# Altium schematic symbol library Ahristi_Library.SchLib: 438 symbols (part 3 of 5)
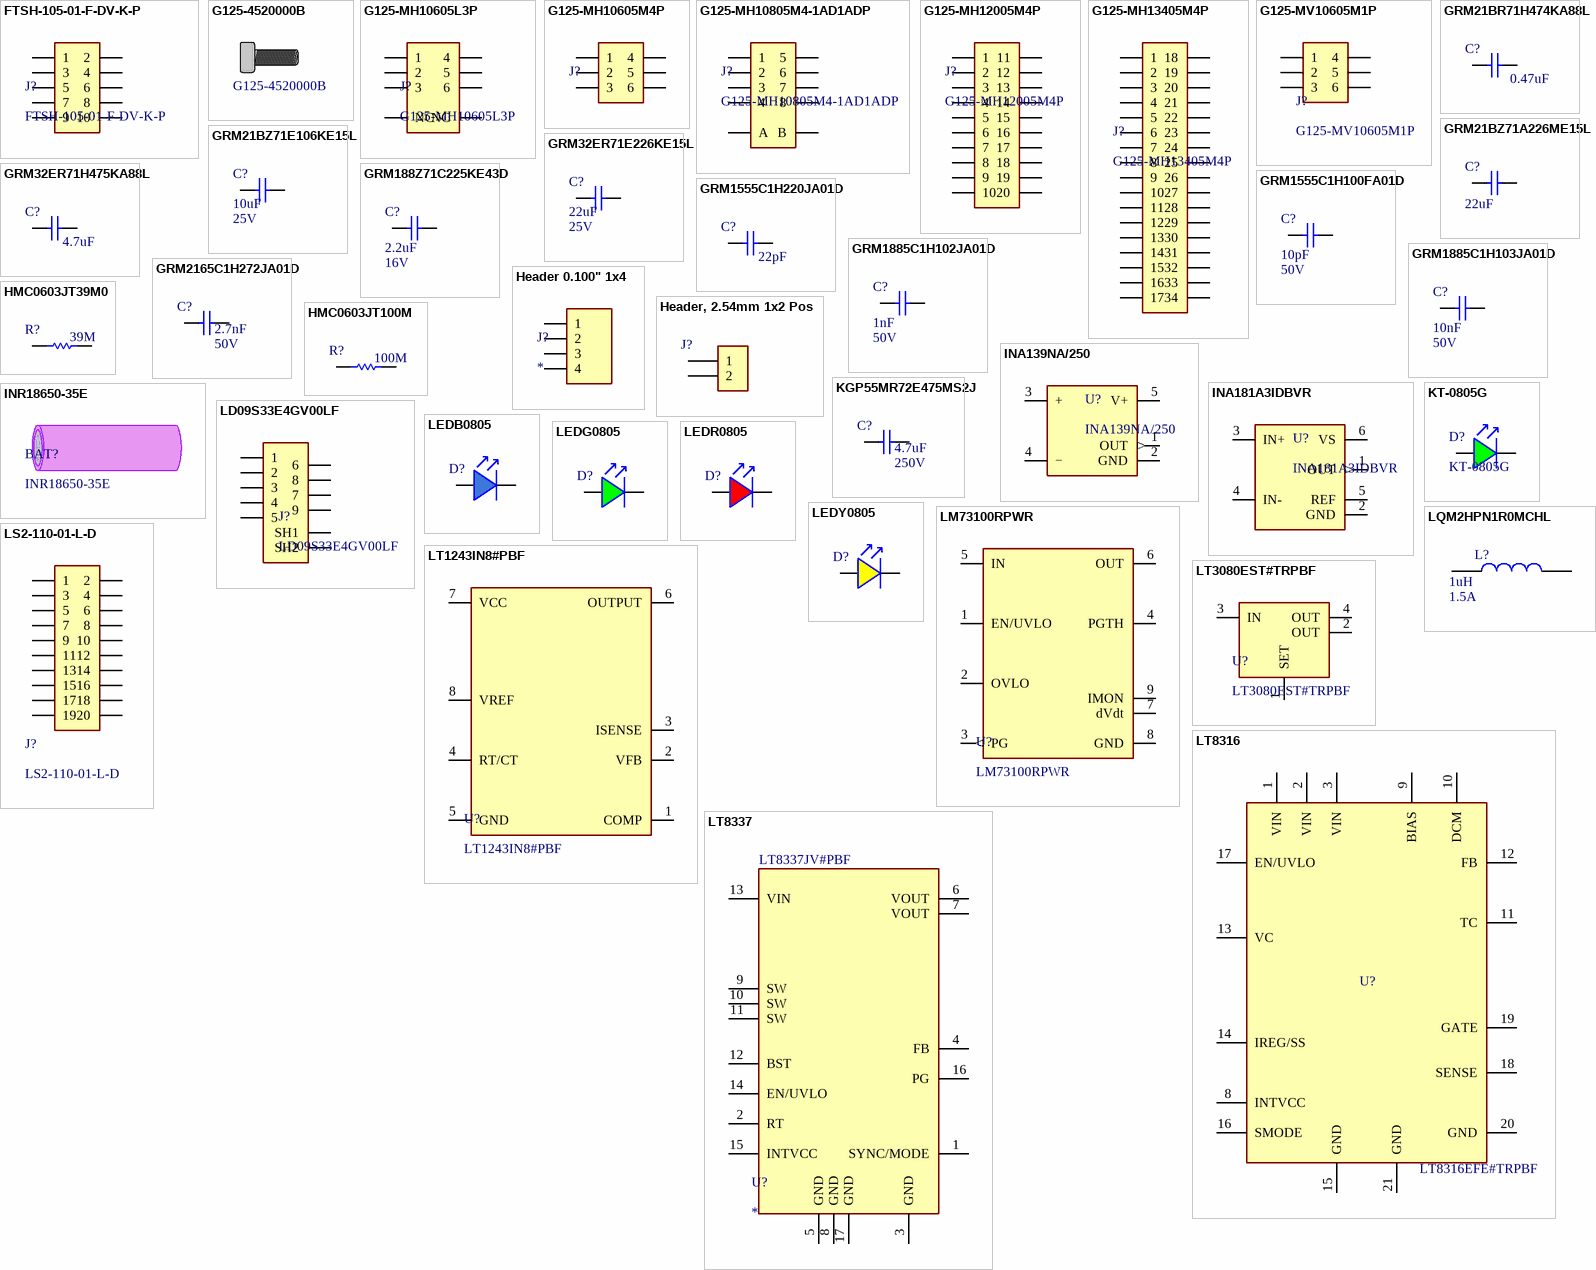
[diagram p14: symbols FTSH-105-01-F-DV-K-P to LT8337]

## KGP55MR72E475MS2J
designator C?  Voltage Rating: 250V  Capacitance: 4.7uF  (hidden comment: KGP55MR72E475MS2J)
4.7 µF ±20% 250V Ceramic Capacitor X7R Stacked SMD, 2 J-Lead; Part Number: KGP55MR72E475MS2J; Distributor Part Number: 478-KGP55MR72E475MS2JCT-ND; Tolerance: 20%; Case Code: 2220; Distributor: 478-KGP55MR72E475MS2JCT-ND
footprint 2220 STACKED (Kyocera stacked 2220)
pins: 1, 2

## KT-0805G
designator D?
LED Green 0805 00mW 120° 2.6V~3.1V 430mcd 513nm~528nm 525nm 5mA; Part Number: KT-0805G; Distributor Part Number: C2297; Colour: Green; Operating Temperature: -40℃~+85℃; Distributor: JLCPCB
footprint LEDG_0805 (Generic Green LED 0805)
pins: A, K

## LD09S33E4GV00LF
designator J?
D-Sub 9 Pin Female Header Right Angle; Voltage Rating: 250V; Current Rating Per Contact: 5A; Part Number: LD09S33E4GV00LF; Distributor: Digikey; Distributor Part Number: 609-5192-ND; Operating Temperature: -55°C ~ 105°C
footprint LD09S33E4GV00LF (9 Pin Dsub)
pins: 1, 2, 3, 4, 4 SH1, 5, 6, 7, 8, 9, SH2

## LEDB0805
designator D?
Generic Blue LED 0805; Manufacturer Part Number: *; Distributor Part Number: *; Colour: *; Operating Temperature: *
footprint LEDB_0805 (Generic bLUE LED 0805)
pins: A, K

## LEDG0805
designator D?
Generic Green LED 0805; Manufacturer Part Number: *; Distributor Part Number: *; Colour: *; Operating Temperature: *
footprint LEDG_0805 (Generic Green LED 0805)
pins: A, K

## LEDR0805
designator D?
Generic Red LED 0805; Manufacturer Part Number: *; Distributor Part Number: *; Colour: *; Operating Temperature: *
footprint LEDR_0805 (Generic Red LED 0805)
pins: A, K

## LEDY0805
designator D?
Generic Yellow LED 0805; Manufacturer Part Number: *; Distributor Part Number: *; Colour: *; Operating Temperature: *
footprint LEDY_0805 (Generic Yellow LED 0805)
pins: A, K

## LM73100RPWR
designator U?
Ideal Diode 2.7 - 23 V, 5.5 A with Input Reverse Polarity and / Overvoltage Protection; Current Output: 5.5A; Voltage Supply: 2.7V ~ 23V; Part Number: LM73100RPWR; Distributor Part Number: 296-LM73100RPWRCT-ND; Distributor: Digikey; Operating Temperature: -40°C ~ 125°C (TJ)
footprint VFQFN-10 (TI VFQFN-10)
pins: 1 EN/UVLO, 2 OVLO, 3 PG (out), 4 PGTH, 5 IN, 6 OUT, 7 dVdt, 8 GND, 9 IMON

## LQM2HPN1R0MCHL
designator L?  Isat: 1.5A  Inductance: 1uH
1uH Tol. +/-20%, Package: 1008 (2520); Manufacturer Part Number: LQM2HPN1R0MCHL; DCR: 90mohm; Tolerance: 20%; ComponentLink1Description: Datasheet; ComponentLink1URL: *; Distributor Part Number: *
footprint LQM2HPN1R0MG0L (Inductor with Inductance: 1uH Tol. +/-20%, Package: 1008 (2520))
pins: 1, 2

## LS2-110-01-L-D
designator J?
Connector Self Mating 20 Position , Non-Gendered, Hermaphroditic Through Hole Gold; Number of Positions: 20; Contact Rating: 3.2A; Voltage Rating: 475VAC; Part Number: LS2-110-01-L-D; Distributor Part Number: SAM9665-ND; Distributor: Digikey; Number of Rows: 2; Operating Temperature: -55C ~ 125C
footprint LS2-110-01-L-D
pins: 1, 2, 3, 4, 5, 6, 7, 8, 9, 10, 11, 12, 13, 14, 15, 16, 17, 18, 19, 20

## LT1243IN8#PBF
designator U?
Buck Regulator Positive, Isolation Capable Output Step-Down DC-DC Controller IC 8-PDIP; Input Voltage: 8.2V ~ 25V; Switching Frequency: 500kHz; Max Duty Cycle: 96%; Part Number: LT1243IN8#PBF; Distributor Part Number: LT1243IN8#PBF-ND; Distributor: Digikey; Operating Temperature: -40C ~ 100C (TA)
footprint 8-CDIP (JG) (Texas Instruments 8-CDIP (JG))
pins: 1 COMP, 2 VFB, 3 ISENSE, 4 RT/CT, 5 GND, 6 OUTPUT, 7 VCC, 8 VREF

## LT3080EST#TRPBF
designator U?
Linear Voltage Regulator IC Positive Adjustable 1 Output 1.1A SOT-223-3; Voltage Input (Max): 36V; Voltage - Output (Min): 0V; Voltage Dropout (Max): 1.6V @ 1.1A; Part Number: LT3080EST#TRPBF; Voltage - Output (Max): 36V; Current - Output: 1.1A; Operating Temperature: -40C ~ 125C
footprint LT3080 (4-SOT-223)
pins: 1 SET, 2 OUT, 3 IN, 4 OUT

## LT8316
designator U?  Manufacturer Part Number: LT8316EFE#TRPBF
Buck, Boost, Flyback Regulator Positive Output Step-Up, Step-Down DC-DC Controller IC 20-TSSOP-EP
footprint LT8316
pins: 1 VIN, 2 VIN, 3 VIN, 8 INTVCC (oc), 9 BIAS (oc), 10 DCM (oc), 11 TC (oc), 12 FB (oc), 13 VC (oc), 14 IREG/SS (oc), 15 GND (oc), 16 SMODE (oc), 17 EN/UVLO (oc), 18 SENSE (oc), 19 GATE (oc), 20 GND (oc), 21 GND (oc)

## LT8337
designator U?  Manufacturer Part Number: LT8337JV#PBF
IC REG BOOST PROG 5A 16LQFN; Frequency - Switching: 300kHz-3MHz; Voltage - Input (Min): 2.7V; Voltage - Input (Max): 28V; Digikey Part Number: 505-LT8337JV#PBF-ND; Max Output Current: 5A; Operating Temperature: -40°C ~ 150°C (TJ); ComponentLink1Description: Datasheet; ComponentLink1URL: https://www.analog.com/media/en/technical-documentation/data-sheets/lt8337-8337-1.pdf
footprint LT8337 (IC REG BOOST PROG 5A 16LQFN)
pins: 1 SYNC/MODE, 2 RT, 3 GND, 4 FB, 5 GND, 6 VOUT, 7 VOUT, 8 GND, 9 SW, 10 SW, 11 SW, 12 BST, 13 VIN, 14 EN/UVLO, 15 INTVCC, 16 PG, 17 GND

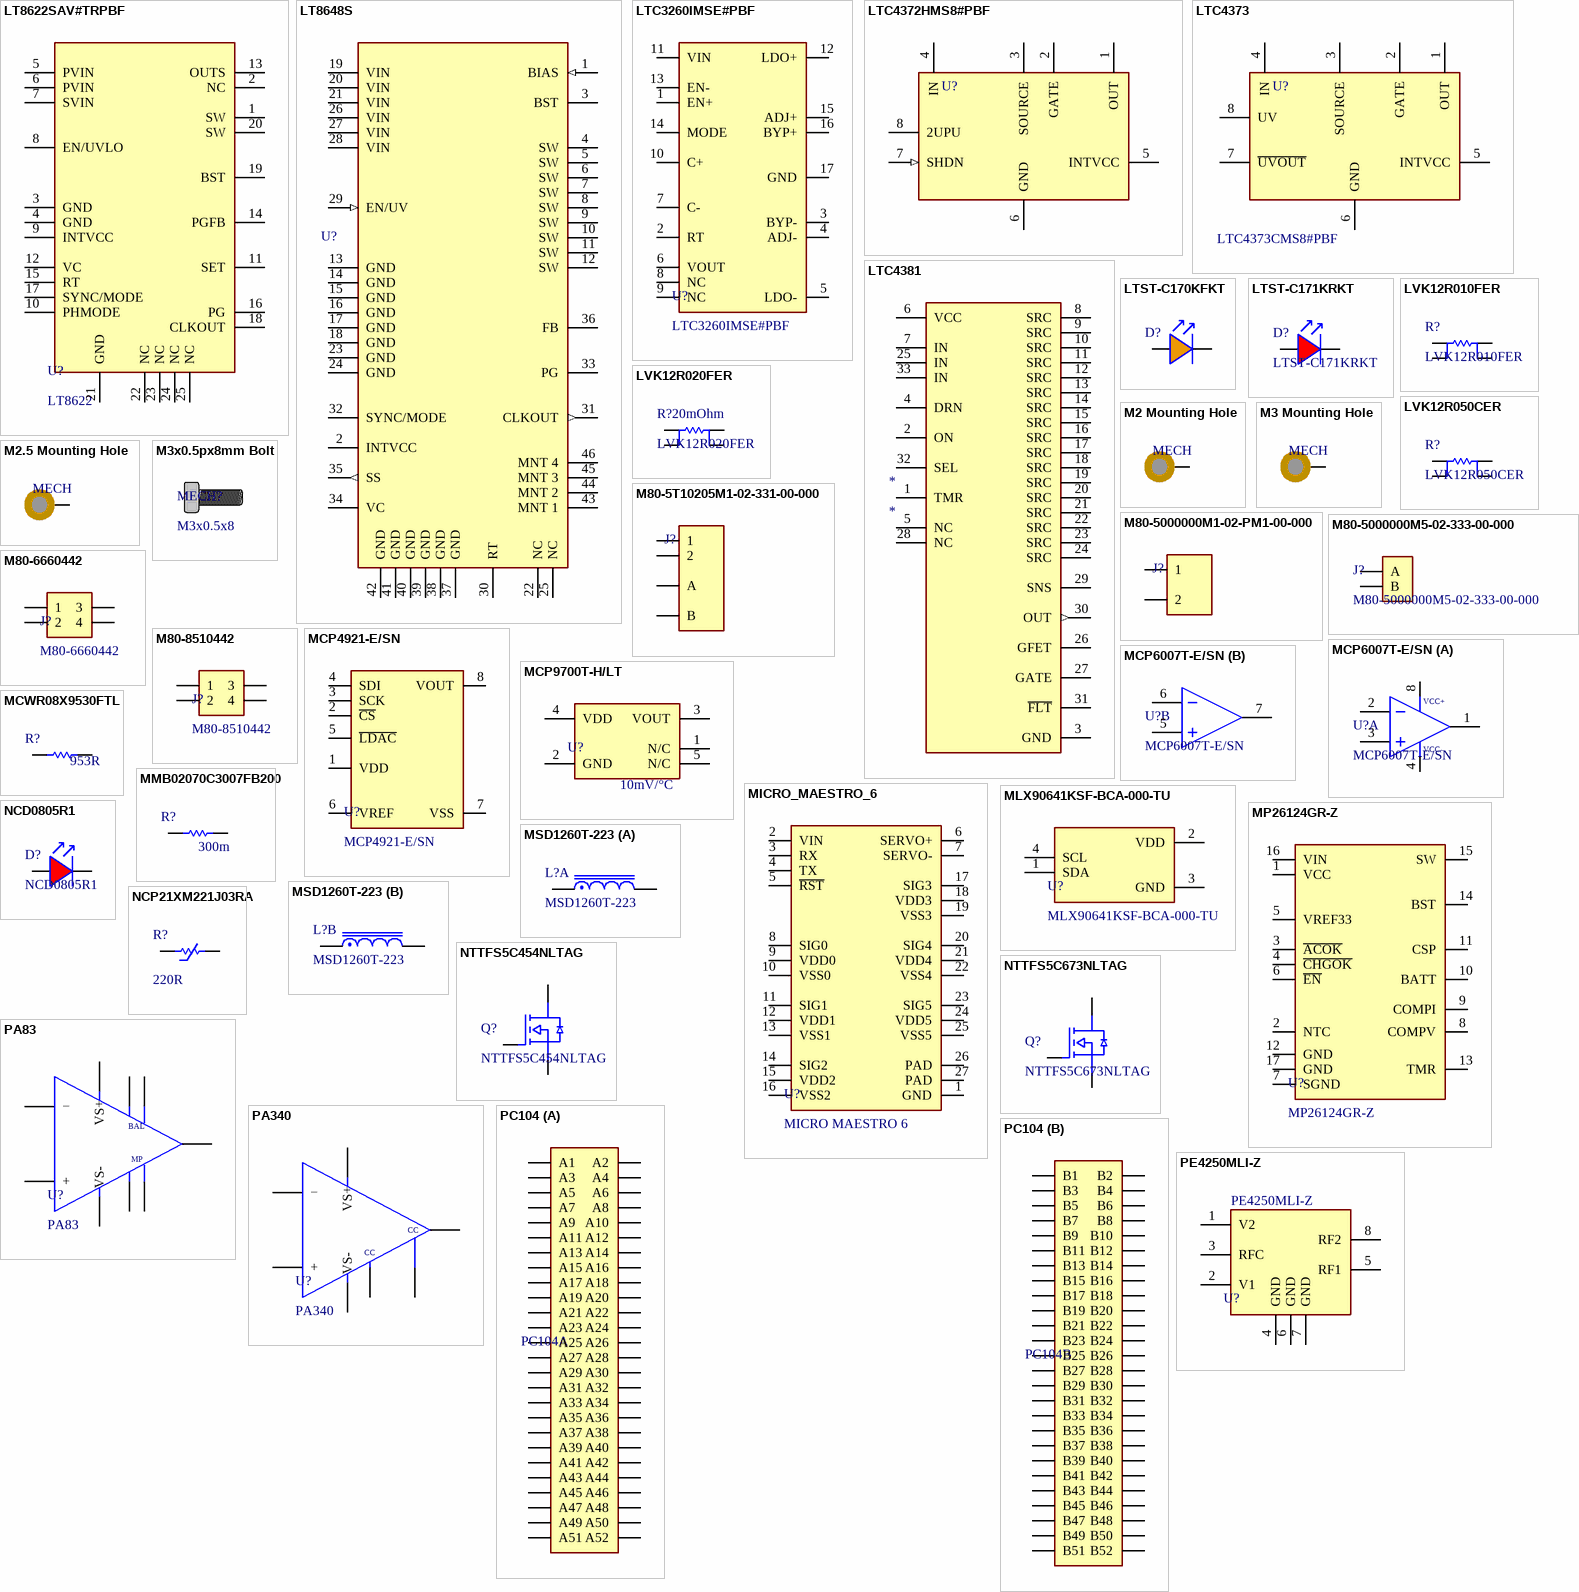
[diagram p6: symbols LT8622SAV#TRPBF to PE4250MLI-Z]

## LT8622SAV#TRPBF
designator U?, comment LT8622
Switching Voltage Regulators 18V, 3A Synchronous Step-Down SW3; Part Number: LT83203RUDB#TRMPBF; Input Voltage: 2.7V ~ 18V; Output Voltage: 0V ~ Vin-0.5V; Output Current: 2A; Maximum Switching Frequency: 6MHz; Operating Temperature: -40C ~ 125C
footprint LT8622S (LT8622S - 20LQFN 4.0x3.0x0.94)
pins: 1 SW, 2 NC, 3 GND, 4 GND, 5 PVIN, 6 PVIN, 7 SVIN, 8 EN/UVLO, 9 INTVCC, 10 PHMODE, 11 SET, 12 VC, 13 OUTS, 14 PGFB, 15 RT, 16 PG, 17 SYNC/MODE, 18 CLKOUT, 19 BST, 20 SW, 21 GND, 22 NC, 23 NC, 24 NC, 25 NC

## LT8648S
designator U?
Switching Voltage Regulators 42V, 15A Synchronous Step-Down Silent Switcher 2; Manufacturer Part Number: LT8648S; Qualification: AEC-Q100; Package: 36-Lead 7mm × 4mm LQFN; Distributor Part Number: *
footprint LT8648S
pins: 1 BIAS (in), 2 INTVCC (power), 3 BST (power), 4 SW, 5 SW, 6 SW, 7 SW, 8 SW, 9 SW, 10 SW, 11 SW, 12 SW, 13 GND, 14 GND, 15 GND, 16 GND, 17 GND, 18 GND, 19 VIN (power), 20 VIN (power), 21 VIN (power), 22 NC, 23 GND, 24 GND, 25 NC, 26 VIN (power), 27 VIN (power), 28 VIN (power), 29 EN/UV (in), 30 RT, 31 CLKOUT (out), 32 SYNC/MODE, 33 PG (oc), 34 VC (power), 35 SS (out), 36 FB, 37 GND, 38 GND, 39 GND, 40 GND, 41 GND, 42 GND, 43 MNT 1, 44 MNT 2, 45 MNT 3, 46 MNT 4

## LTC3260IMSE#PBF
designator U?
PMIC - Voltage Regulators - Linear Switching 1 Output Charge Pump 50kHz ~ 500kHz 16-MSOP-EP; Voltage _ Supply: 4.5V ~ 32V; Part Number: LTC3260IMSE#PBF; Distributor Part Number: 505-LTC3260IMSE#PBF-ND; Operating Temperature: -40°C ~ 125°C (TJ); Switching Frequency: 500kHz; Distributor: Digikey
footprint LTC3260IMSE#PBF (16-MSOP)
pins: 1 EN+, 2 RT, 3 BYP-, 4 ADJ-, 5 LDO-, 6 VOUT, 7 C-, 8 NC, 9 NC, 10 C+, 11 VIN, 12 LDO+, 13 EN-, 14 MODE, 15 ADJ+, 16 BYP+, 17 GND

## LTC4372HMS8#PBF
designator U?  (value not drawn)
Ideal Diode Controller, 8-lead MSOP SHDN; Manufacturer Part Number: LTC4373CMS8#PBF; Qualification: None; Voltage Supply: 2.5V ~ 80V; Distributor Part Number: 505-LTC4372HMS8#PBF-ND; Package: 8-Lead MSOP; Distributor: Digikey; Operating Temperature: -40°C ~ 125°C (TA)
footprint MS8-8LEAD
pins: 1 OUT, 2 GATE, 3 SOURCE, 4 IN, 5 INTVCC, 6 GND, 7 SHDN (in), 8 2UPU

## LTC4373
designator U?  Manufacturer Part Number: LTC4373CMS8#PBF
Ideal Diode Controller, 8-lead MSOP UV lockout; Qualification: None; Package: 8-Lead MSOP
footprint MS8-8LEAD
pins: 1 OUT, 2 GATE, 3 SOURCE, 4 IN, 5 INTVCC, 6 GND, 7 ~{UVOUT} (oc), 8 UV

## LTC4381
designator *
footprint LTC4381
pins: 1 TMR, 2 ON, 3 GND (power), 4 DRN, 5 NC, 6 VCC (power), 7 IN (power), 8 SRC, 9 SRC, 10 SRC, 11 SRC, 12 SRC, 13 SRC, 14 SRC, 15 SRC, 16 SRC, 17 SRC, 18 SRC, 19 SRC, 20 SRC, 21 SRC, 22 SRC, 23 SRC, 24 SRC, 25 IN (power), 26 GFET, 27 GATE, 28 NC, 29 SNS, 30 OUT (out), 31 ~{FLT}, 32 SEL, 33 IN (power)

## LTST-C170KFKT
designator D?  (value not drawn)
Orange 605nm LED Indication - Discrete 2V 0805 (2012 Metric); Part Number: LTST-C170KFKT; Distributor Part Number: 160-1413-1-ND; Colour: Orange; Operating Temperature: *; Forward Voltage: 2V
footprint LEDO_0805 (Orange LED 0805)
pins: A, K

## LTST-C171KRKT
designator D?
Red 631nm LED Indication - Discrete 2V 0805 (2012 Metric); Part Number: LTST-C171KRKT; Distributor Part Number: 160-1427-1-ND; Colour: Red; Operating Temperature: -30℃~+85℃; Distributor: Digikey
footprint LEDR_0805 (Generic Red LED 0805)
pins: A, K

## LVK12R010FER
designator R?
10 mOhms ±1% 0.5W, 1/2W Chip Resistor 1206 (3216 Metric) Anti-Corrosive, Current Sense, Moisture Resistant Thick Film; Manufacturer: Ohmite; Tolerance: 0.25%; Temperature Coefficient: ±50ppm/°C; Resistance: 10mOhm; Part Number: LVK12R010FER; Distributor: Digikey; Distributor Part Number: 273-LVK12R010FERCT-ND; Power: 0.5W
footprint LVK12R050CER-1 (1206 Current Sense)
footprint LVK12R050CER-2 (1206 Current Sense)
pins: 1, 2, 3, 4

## LVK12R020FER
designator R?  Resistance: 20mOhm
20 mOhms ±1% 0.5W, 1/2W Chip Resistor 1206 (3216 Metric) Anti-Corrosive, Current Sense, Moisture Resistant Thick Film; Manufacturer: Ohmite; Tolerance: 0.25%; Temperature Coefficient: ±50ppm/°C; Part Number: LVK12R020FER; Distributor: Digikey; Distributor Part Number: 273-LVK12R020FERCT-ND; Power: 0.5W
footprint LVK12R050CER-1 (1206 Current Sense)
footprint LVK12R050CER-2 (1206 Current Sense)
pins: 1, 2, 3, 4

## LVK12R050CER
designator R?
Resistor, Current Sense 50 mOhms ±0.25% 0.5W, Moisture Resistant Thick Film; Manufacturer: Ohmite; Temperature Coefficient: ±50ppm/°C; Resistance: 50mOhm; Part Number: LVK12R050CER; Distributor: *; Distributor Part Number: *; Power: 0.5W; Tolerance: 0.25%
footprint LVK12R050CER-1 (1206 Current Sense)
footprint LVK12R050CER-2 (1206 Current Sense)
pins: 1, 2, 3, 4

## M2 Mounting Hole
designator MECH  (value not drawn)
footprint M2 Mounting Hole
footprint M2 Mounting Hole - NO VIAS (M2 Mounting Hole)
pins: 1

## M2.5 Mounting Hole
designator MECH  (value not drawn)
footprint M2.5 Mounting Hole
pins: 1

## M3 Mounting Hole
designator MECH, comment M3 MOUNTING HOLE  (value not drawn)
footprint M3 Mounting Hole
pins: 1

## M3x0.5px8mm Bolt
designator MECH?, comment M3x0.5x8  (mechanical)
M3 x 0.50p x 8mm Full Thread Metric Coarse Socket Head Cap Screw (2.5mm Key) A4-70 Stainless G316 DIN 912 / ISO 4762; Part Number: M3 x 0.50p x 8mm; Distributor: Bolt and Nut Australia; Distributor Part Number: M3 x 0.50p x 8mm
footprint M3 x 0.50p x 8mm Bolt

## M80-5T10205M1-02-331-00-000
designator J?
Harwin 2+2 Pos. Male Signal+Power Vertical Throughboard Conn. Jackscrews; Manufacturer Part Number: M80-5T10205M1-02-331-00-000; Rows: 2; Positions: 4; Max Current: 40A; Distributor Part Number: *; ComponentLink1Description: New link; ComponentLink1URL: https://www.mouser.co.uk/datasheet/2/181/M80-5T10205M1-02-331-00-000-1135657.pdf
footprint M80-5T10205M1-02-331-00-000 (Harwin 2+2 Pos. Male Signal+Power Vertical Throughboard Conn. Jackscrews)
pins: 1, 2, A, B

## M80-5000000M1-02-PM1-00-000
designator J?
2 Pos. Male SIL Vertical Throughboard Conn. Jackscrews; Manufacturer Part Number: M80-5000000M1-02-PM1-00-000; Rows: 1; Positions: 2; Max Current: 40A; Distributor Part Number: *
footprint M80-5000000M1-02-PM1-00-000 (2 Pos. Male SIL Vertical Throughboard Conn. Jackscrews)
pins: 1, 2

## M80-5000000M5-02-333-00-000
designator J?
Connector Header Through Hole, Right Angle 2 position 0.157" (4.00mm); Manufacturer: Harwin; Number of Positions: 2; Current Rating: 20A; Voltage Rating: 800V; Part Number: M80-5000000M5-02-333-00-000; Distributor: Digikey; Distributor Part Number: 952-2578-ND; Number of Rows: 1; Operating Temperature: -55°C ~ 125°C
footprint M80-5000000M5-02-333-00-000 (Harwin Datamate 2pin Power)
pins: A, B

## M80-6660442
designator J?
Connector Header Surface Mount, Right Angle 4 position 0.079" (2.00mm); Manufacturer: Harwin; Rows: 2; Current Rating: 2.2A; Part Number: M80-6660442; Positions: 2; Distributor Part Number: 952-2095-ND; Operating Temperature: -55°C ~ 125°C
footprint M80-6660442 (Harwin Datamate L-Tek Horizontal SMT)
pins: 1, 2, 3, 4

## M80-8510442
designator J?
Connector Header Through Hole, Right Angle 4 position 0.079" (2.00mm); Manufacturer: Harwin; Rows: 2; Current Rating: 2.2A; Part Number: M80-8510442; Positions: 2; Distributor Part Number: 952-1127-5-ND; Operating Temperature: -55°C ~ 125°C
footprint M80-8510442 (Harwin Datamate L-Tek 4Pin)
pins: 1, 2, 3, 4

## MCP4921-E/SN
designator U?
Digital to Analog Converter 12Bit SPI 2.7V ~ 5.5V; Number of Bits: 12; Part Number: MCP4921-E/SN; Distributor: Digikey; Distributor Part Number: MCP4921-E/SN-ND; Operating Temperature: -40°C ~ 125°C; Analog Supply: 2.7V ~ 5.5V; Digital Supply: 2.7V ~ 5.5V
footprint SOIC-8 (SOIC-8 Analog Devices Spec)
pins: 1 VDD, 2 ~{CS}, 3 SCK, 4 SDI, 5 ~{LDAC}, 6 VREF, 7 VSS, 8 VOUT

## MCP6007T-E/SN
designator U?
Operational Amplifier general purpose, 2-Circuit 1.8V ~ 5.5V 1MHz; Slew Rate: 1.9V/us; Part Number: MCP6007T-E/SN; Distributor: Digikey; Distributor Part Number: 150-MCP6007T-E/SNCT-ND; Input Voltage: 1.8V ~ 5.5V; Operating Temperature: -40°C ~ 125°C; Gain Bandwidth Product: 1MHz
footprint SOIC-8 (SOIC-8 Analog Devices Spec)
part A pins: 1 OUTA, 2 INA-, 3 INA+, 4 VCC-, 8 VCC+
part B pins: 5 INB+, 6 INB-, 7 OUTB

## MCP9700T-H/LT
designator U?  Resolution: 10mV/°C
Temperature Sensor Analog, Local -40°C ~ 150°C 10mV/°C SC-70-5; Manufacturer Part Number: MCP9700T-H/LT; Operating Temperature: -40°C ~ 150°C; ComponentLink1Description: Datasheet; ComponentLink1URL: https://ww1.microchip.com/downloads/aemDocuments/documents/MSLD/ProductDocuments/DataSheets/MCP970X-Family-Data-Sheet-DS20001942.pdf; Distributor: Digikey; Distributor Part Number: MCP9700T-H/LTCT-ND
footprint SC70 5-Lead
pins: 1 N/C, 2 GND, 3 VOUT, 4 VDD, 5 N/C

## MCWR08X9530FTL
designator R?, comment Resistance: 953R  (hidden comment: Multicomp MCWR08X9530FTL)
125mW 953Ω ±1% 0805 Chip Resistor - Surface Mount RoHS; Part Number: MCWR08X9530FTL; Tolerance: 1%; Distributor Part Number: C241271; Distributor: JLCPCB; Case Code: 0805
footprint RESC0805 (Chip Resistor, 2-Leads, Body 1.00x0.50mm, IPC Medium Density)
pins: 1, 2

## MICRO_MAESTRO_6
designator U?, comment MICRO MAESTRO 6
6 Channel USB Servo Controller; Part Number: 1350; Channels: 6; Operating Voltage: 5V~16V; Distributor Part Number: 1350; Distributor: Polulu
footprint MICRO_MAESTRO_6 (POLULU MICRO MAESTRO 6)
pins: 1 GND, 2 VIN, 3 RX, 4 TX, 5 ~{RST}, 6 SERVO+, 7 SERVO-, 8 SIG0, 9 VDD0, 10 VSS0, 11 SIG1, 12 VDD1, 13 VSS1, 14 SIG2, 15 VDD2, 16 VSS2, 17 SIG3, 18 VDD3, 19 VSS3, 20 SIG4, 21 VDD4, 22 VSS4, 23 SIG5, 24 VDD5, 25 VSS5, 26 PAD, 27 PAD

## MLX90641KSF-BCA-000-TU
designator U?
SENSOR TEMP 16X12 110FOV TO39; Part Number: MLX90641ESF-BCB-000-TU; Input Voltage: 3V~3.6V; Distributor: *; Distributor Part Number: *; Operating Temperature: -40C ~ 125C; ComponentLink1Description: Datasheet; ComponentLink1URL: https://www.melexis.com/-/media/files/documents/datasheets/mlx90641-datasheet-melexis.pdf
footprint MLX90641 (SENSOR TEMP 16X12 60FOV TO39)
pins: 1 SDA, 2 VDD (power), 3 GND (power), 4 SCL

## MMB02070C3007FB200
designator R?  Resistance: 300m  (hidden comment: MMB02070C3007FB200)
300 mOhms ±1% 1W Chip Resistor MELF, 0207 Anti-Sulfur, Automotive AEC-Q200 Thin Film; Manufacturer: Vishay; Part Number: MMB02070C3007FB200; Tolerance: 1%; Distributor Part Number: 749-1099-1-ND; Distributor: Digikey; Case Code: 0207
footprint 0207 MELF (Vishay 0207 MELF Resistor)
pins: 1, 2

## MP26124GR-Z
designator U?
Charger IC Lithium Ion 24V Input, 2A, 600kHz, 4S Cell Switching; Battery Pack Voltage: 16.8V; Part Number: MP26124GR-Z; Distributor: Digikey; Distributor Part Number: 1589-1993-1-ND; Operating Temperature: -20C~125C; Voltage Supply (Max): 24V
footprint qfn-16 (QFN-16)
pins: 1 VCC, 2 NTC, 3 ~{ACOK}, 4 ~{CHGOK}, 5 VREF33, 6 ~{EN}, 7 SGND, 8 COMPV, 9 COMPI, 10 BATT, 11 CSP, 12 GND, 13 TMR, 14 BST, 15 SW, 16 VIN, 17 GND

## MSD1260T-223
designator L?
Inductor 22uH 1.76A RMS Shielded, Coupled 1:1, 500V Isolation.; Manufacturer: Coilcraft; DCR max: 0.12ohms; Leakage Inductance: 680uH; Isat (10%): 4.0A; Single winding Irms: 2.5A; Dual winding Irms: 1.8A; Part Number: MSD1260T-223; Distributor: Coilcraft; Distributor Part Number: MSD1260T-223; Inductance: 22uH; Isolation Voltage: 500V; Turns Ratio: 1:1
footprint MSD1260T-223 (MSD1260T Shielded Coupled Inductors)
part A pins: 1, 3
part B pins: 2, 4

## NCD0805R1
designator D?
LED Red 0805 1.6V~2.6V 130° 195mcd 25mA 615nm~630nm 630nm 65mW; Part Number: NCD0805R1; Distributor Part Number: C84256; Colour: Red; Operating Temperature: -30℃~+85℃; Distributor: JLCPCB
footprint LEDR_0805 (Generic Red LED 0805)
pins: A, K

## NCP21XM221J03RA
designator R?  Resistance: 220R
THERMISTOR NTC 220OHM 3500K 0805; Manufacturer Part Number: NCP21XM221J03RA; Tolerance: *; Case Code: 0805; Digikey Part Number: A106104CT-ND; Operating Temperature: -55C to 125C
footprint RESC0805 (Chip Resistor, 2-Leads, Body 1.00x0.50mm, IPC Medium Density)
pins: 1, 2

## NTTFS5C454NLTAG
designator Q?
N-MOSFET 40 V , 85 A, 3.8 mΩ Rds(on) @ 10 V, WDFN-8 3.3×3.3 mm, low Qg (~18 nC); Manufacturer: Onsemi; Vdss: 40V; Current - Continuous Drain (Id): 20A; Rds On (Max): 3.8mOhm; Gate Charge (Qg) (Max) @ Vgs: 18nC @ 10V; Vgs (Max): 20V; Power Dissipation (Max) (Ta): 3.2W; Part Number: NTTFS5C454NL; Distributor: *; Distributor Part Number: *; Operating Temperature: -55°C ~ 175°C; ComponentLink1Description: Datasheet; ComponentLink1URL: https://www.onsemi.com/pdf/datasheet/nttfs5c454nl-d.pdf
footprint NTTFS5C454NLTAG (8-WDFN (3.3x3.3))
pins: D, G, S

## NTTFS5C673NLTAG
designator Q?
N-Channel 60 V 13A (Ta), 50A (Tc) 3.1W (Ta), 46W (Tc) Surface Mount 8-WDFN (3.3x3.3); Part Number: NTTFS5C454NL; Manufacturer: Onsemi; Vdss: 60V; Rds On (Max): 13.3mOhms; Gate Charge (Qg) (Max) @ Vgs: 9.5nC @ 10V; Vgs (Max): 20V; Distributor: Mouser; Distributor Part Number: 863-NTTFS5C673NLTAG; Current - Continuous Drain (Id): 13A; Power Dissipation (Max) (Ta): 46W; Operating Temperature: -55°C ~ 175°C; ComponentLink1Description: Datasheet; ComponentLink1URL: https://www.onsemi.com/pdf/datasheet/nttfs5c454nl-d.pdf
footprint NTTFS5C673NLTAG (8-WDFN (3.3x3.3))
pins: D, G, S

## PA83
designator U?
Operational Amplifier, High Reliability, 150V 60MHz 100mA; CMRR: 130dB; Supply Voltage Range: 15V ~ 150V; Part Number: PA83; Distributor: Mouser; Distributor Part Number: 137-PA83; Operating Temperature: -55°C to 125°C; Output Current: 100mA
footprint PA83 (8-pin TO-3)
pins: 1 OUT, 2 VS+ (power), 3 BAL (power), 3 VCC+ (power), 4 BAL (power), 4 VCC+ (power), 5 −, 6 +, 7 VS- (power)
text: MP

## PA340
designator U?
Operational Amplifier, 350V 120mA 10MHz; CMRR: 115dB; Output Current: 60mA; Supply Voltage Range: 10V ~ 175V; Part Number: PA340; Distributor: Mouser; Distributor Part Number: 137-PA340CC; Operating Temperature: -55°C to 125°C
footprint PA340
pins: 1 −, 2 +, 3 VS+ (power), 4 VS- (power), 5 OUT, 6 VCC+ (power), 7 VCC+ (power)
text: CC

## PC104
designator PC104, comment SSQ-126-21-G-D  (value not drawn)
PC104 stack header, 2.54mm 4x26positions; Current Rating: 6.3A; Number of Positions: 52; Voltage Rating (AC): 465V; Voltage Rating (DC): 655V; Part Number: SSQ-126-21-G-D; Distributor Part Number: SSQ-126-21-G-D-ND; Distributor: Digikey; Operating Temperature: -55°C ~ 125°C; Number of Rows: 2
footprint PC104 STACK HEADER (4x26 2.54mm Header)
part A pins: A1, A2, A3, A4, A5, A6, A7, A8, A9, A10, A11, A12, A13, A14, A15, A16, A17, A18, A19, A20, A21, A22, A23, A24, A25, A26, A27, A28, A29, A30, A31, A32, A33, A34, A35, A36, A37, A38, A39, A40, A41, A42, A43, A44, A45, A46, A47, A48, A49, A50, A51, A52
part B pins: B1, B2, B3, B4, B5, B6, B7, B8, B9, B10, B11, B12, B13, B14, B15, B16, B17, B18, B19, B20, B21, B22, B23, B24, B25, B26, B27, B28, B29, B30, B31, B32, B33, B34, B35, B36, B37, B38, B39, B40, B41, B42, B43, B44, B45, B46, B47, B48, B49, B50, B51, B52

## PE4250MLI-Z
designator U?  Part Number: PE4250MLI-Z
RF Switch IC General Purpose SPDT 3 GHz 50Ohm 8-MSOP; Frequency Range: 10MHz ~ 3GHz; Isolation: 40dB; Insertion Loss: 0.75dB; Voltage Supply: 3V ~ 3.6V, 4.5V ~ 5.5V; Impedance: 50ohm; Operating Temperature: -40°C ~ 85°C; ComponentLink1Description: Datasheet; ComponentLink1URL: https://www.psemi.com/pdf/datasheets/pe4250ds.pdf
footprint MS8-8LEAD
pins: 1 V2, 2 V1, 3 RFC, 4 GND, 5 RF1, 6 GND, 7 GND, 8 RF2

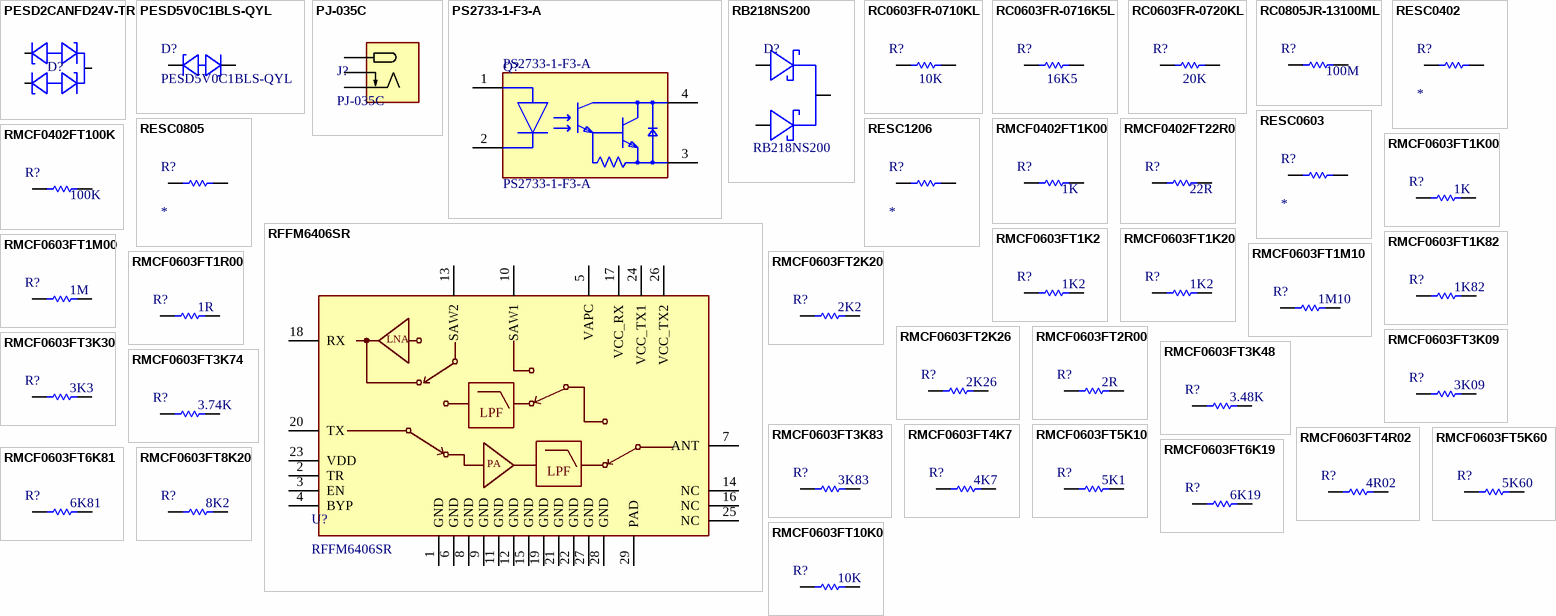
[diagram p7: symbols PESD2CANFD24V-TR to RMCF0603FT10K0]

## PESD2CANFD24V-TR
designator D?
42V Clamp 2.6A (8/20µs) Ipp Tvs Diode Surface Mount TO-236AB; Part Number: PESD2CANFD24V-TR; Voltage - Reverse Standoff: 24V; Voltage - Breakdown: 25.5V; Qualification: AEC-Q101; Voltage - Clamping (Max): 42V; Operating Temperature: -55°C ~ 175°C; Distributor: Digikey
footprint SOT23-3 IC (Diodes Incorporated SOT-23 land pattern with IC pin designators)
pins: 1, 2, 3

## PESD5V0C1BLS-QYL
designator D?
5.4V (Typ) Clamp 6.5A (8/20µs) Ipp Tvs Diode Surface Mount DFN1006BD-2; Voltage - Reverse Standoff (Typ): 5V (Max); Voltage - Breakdown (Min): 7.5V; Part Number: PESD5V0C1BLS-QYL; Voltage - Clamping (Max) @ Ipp: 5.4V (Typ); Operating Temperature: -55C ~ 150C; ComponentLink1Description: Datasheet; ComponentLink1URL: https://assets.nexperia.com/documents/data-sheet/PESD5V0C1BLS-Q.pdf; Distributor: Digikey; Distributor Part Number: 1727-PESD5V0C1BLS-QYLCT-ND
footprint PESD5V0C1BLS-Q (SOD882BD)
pins: 1, 2

## PJ-035C
designator J?
Power Barrel Connector Jack 1.00mm ID (0.039"), 3.50mm OD (0.138") Through Hole, Right Angle; Voltage Rating: 24VDC; Current Ratnig: 2A; Part Number: PJ-035C; Distributor: Digikey; Distributor Part Number: CP-035C-ND; Operating Temperature: -25°C ~ 85°C
footprint PJ-035C
pins: 1 V+, 2 V-, 3 V-

## PS2733-1-F3-A
designator Q?
Optocoupler, Darlington, 2.5Kv, Sop-4 Rohs Compliant: Yes |Renesas PS2733-1-F3-A; Manufacturer Lifecycle Status: ACTIVE; Max Power Dissipation: 230mW; Rise Time: 100µs; Forward Voltage: 1.4V; Current Transfer Ratio: 4000%; Number of Channels: 1; Output Current per Channel: 150mA; Collector Emitter Voltage (VCEO): 350V; Reverse Voltage: 6V; RAM Size: 6kB; Forward Current: 50mA; Collector Emitter Saturation Voltage: 1V; Packaging: Tape & Reel (TR); Lead Free: Lead Free; Power Dissipation: 230mW; Height: 2.3mm; Lifecycle Status: Production; Max Operating Temperature: 100°C; ComponentLink1URL: http://www.renesas.com; Number of Circuits: 1; Mount: Surface Mount; Fall Time: 100µs; Isolation Voltage: 2.5kV; ComponentLink2URL: https://octopart.com/cad-content/api/get-model-datasheet/15189/22861630; Number of Elements: 1; Number of Pins: 4; Min Operating Temperature: -55°C; ComponentLink2Description: Datasheet URL; HelpURL: https://octopart.com/cad-content/api/get-model-datasheet/15189/22861630; Max Collector Current: 150mA; ComponentLink1Description: Manufacturer's Website; Output Voltage: 350V; Reverse Breakdown Voltage: 6V; Case/Package: SOP; RoHS: Compliant; Manufacturer Part Number: PS2733-1-F3-A
footprint PS2733-1 (Transistor Output Optocouplers Hi Col-Emit Dar 1-Ch)
pins: 1 A, 2 C, 3 E, 4 C

## RB218NS200
designator D?  Manufacturer Part Number: RB218NS200
Diode Array 1 Pair Common Cathode 200 V 20A Surface Mount TO-263-3, D2PAK (2 Leads + Tab), TO-263AB; Vr (Max): 200V; Ir: 10uA; Ifsm: 100A; Distributor Part Number: *; Package: TO-263; Operating Temperature: -55C-150C
footprint TO-263 D2PAK
pins: 1, 2, 3

## RC0603FR-0710KL
designator R?  Resistance: 10K  (hidden comment: RC0603FR-0710KL)
10 kOhms ±1% 0.1W, 1/10W Chip Resistor 0603 (1608 Metric) Moisture Resistant Thick Film; Manufacturer Part Number: RC0603FR-0710KL; Tolerance: 1%; Distributor Part Number: 311-10.0KHRCT-ND; Distributor: Digikey; Case Code: 0603
footprint RESC0603 (Chip Resistor, 2-Leads, Body 1.60x0.80mm, IPC Medium Density)
pins: 1, 2

## RC0603FR-0716K5L
designator R?  Resistance: 16K5  (hidden comment: RC0603FR-0716K5L)
16.5 kOhms ±1% 0.1W, 1/10W Chip Resistor 0603 (1608 Metric) Moisture Resistant Thick Film; Manufacturer Part Number: RC0603FR-0720KL; Tolerance: 1%; Distributor Part Number: 311-16.5KHRCT-ND; Distributor: Digikey; Case Code: 0603
footprint RESC0603 (Chip Resistor, 2-Leads, Body 1.60x0.80mm, IPC Medium Density)
pins: 1, 2

## RC0603FR-0720KL
designator R?, comment Resistance: 20K  (hidden comment: RC0603FR-0710KL)
20 kOhms ±1% 0.1W, 1/10W Chip Resistor 0603 (1608 Metric) Moisture Resistant Thick Film; Manufacturer Part Number: RC0603FR-0720KL; Tolerance: 1%; Distributor Part Number: 311-20.0KHRCT-ND; Distributor: Digikey; Case Code: 0603
footprint RESC0603 (Chip Resistor, 2-Leads, Body 1.60x0.80mm, IPC Medium Density)
pins: 1, 2

## RC0805JR-13100ML
designator R?  Resistance: 100M  (hidden comment: RC0805JR-13100ML)
100 MOhms ±5% 0.125W, 1/8W Chip Resistor 0805 (2012 Metric) Moisture Resistant Thick Film; Tolerance: 1%; Manufacturer Part Number: RC0805JR-13100ML; Distributor Part Number: 13-RC0805JR-13100MLCT-ND; Distributor: Digikey; Case Code: 0805
footprint RESC0805 (Chip Resistor, 2-Leads, Body 1.00x0.50mm, IPC Medium Density)
pins: 1, 2

## RESC0402
designator R?
Part Number: *; Tolerance: *; Distributor Part Number: *; Distributor: *; Case Code: 0402; Manufacturer: *; Resistance: *
footprint RESC0402 (Chip Resistor, 2-Leads, Body 1.00x0.50mm, IPC Medium Density)
pins: 1, 2

## RESC0603
designator R?
Part Number: *; Tolerance: *; Distributor Part Number: *; Distributor: *; Case Code: 0603; Manufacturer: *; Resistance: *
footprint RESC0603 (Chip Resistor, 2-Leads, Body 1.60x0.80mm, IPC Medium Density)
pins: 1, 2

## RESC0805
designator R?
Part Number: *; Tolerance: *; Distributor Part Number: *; Distributor: *; Case Code: 0805; Manufacturer: *; Resistance: *
footprint RESC0805 (Chip Resistor, 2-Leads, Body 1.00x0.50mm, IPC Medium Density)
pins: 1, 2

## RESC1206
designator R?
Part Number: *; Tolerance: *; Distributor Part Number: *; Distributor: *; Case Code: 1206; Manufacturer: *; Resistance: *
footprint RESC1206 (Chip Resistor, 2-Leads, Body 3.2x1.60mm, IPC Medium Density)
pins: 1, 2

## RFFM6406SR
designator U?
RF Front End 408-455MHz FEM 400MHz ISM Band; Operating Frequency: 408MHz to 455MHz; Noise Figure: 1.9dB; Operating Supply Voltage: 2.5V to 4.2V; Operating Supply Current: 770mA; Gain: 15dB, 25dB; Part Number: RFFM6406SR; Operating Temperature: -40C ~ 85C
footprint RFFM6406SR (RFFM6406SR - LGA-28)
pins: 1 GND, 2 TR, 3 EN, 4 BYP, 5 VAPC, 6 GND, 7 ANT, 8 GND, 9 GND, 10 SAW1, 11 GND, 12 GND, 13 SAW2, 14 NC, 15 GND, 16 NC, 17 VCC_RX, 18 RX, 19 GND, 20 TX, 21 GND, 22 GND, 23 VDD, 24 VCC_TX1, 25 NC, 26 VCC_TX2, 27 GND, 28 GND, 29 PAD
text: LNA; LPF; PA

## RMCF0402FT1K00
designator R?  Resistance: 1K  (hidden comment: RMCF0402FT1K00)
1 kOhms ±1% 0.063W, 1/16W Chip Resistor 0402 (1005 Metric) Automotive AEC-Q200 Thick Film; Manufacturer: Stackpole; Part Number: RMCF0402FT1K00; Tolerance: 1%; Distributor Part Number: RMCF0402FT1K00CT-ND; Distributor: Digikey; Case Code: 0402
footprint RESC0402 (Chip Resistor, 2-Leads, Body 1.00x0.50mm, IPC Medium Density)
pins: 1, 2

## RMCF0402FT22R0
designator R?  Resistance: 22R  (hidden comment: RMCF0402FT22R0)
22 Ohms ±1% 0.063W, 1/16W Chip Resistor 0402 (1005 Metric) Automotive AEC-Q200 Thick Film; Manufacturer: Stackpole; Part Number: RMCF0402FT22R0; Tolerance: 1%; Distributor Part Number: 738-RMCF0402FT22R0CT-ND; Distributor: Digikey; Case Code: 0402
footprint RESC0402 (Chip Resistor, 2-Leads, Body 1.00x0.50mm, IPC Medium Density)
pins: 1, 2

## RMCF0402FT100K
designator R?  Resistance: 100K
100 kOhms ±1% 0.063W, 1/16W Chip Resistor 0402 (1005 Metric) Automotive AEC-Q200 Thick Film; Part Number: RMCF0402FT100K; Manufacturer: Stackpole; Tolerance: 1%; Distributor Part Number: RMCF0402FT100K; Distributor: Digikey; Case Code: 0402
footprint RESC0402 (Chip Resistor, 2-Leads, Body 1.00x0.50mm, IPC Medium Density)
pins: 1, 2

## RMCF0603FT1K00
designator R?  Resistance: 1K  (hidden comment: RMCF0603FT1K00)
1 kOhms ±1% 0.1W, 1/10W Chip Resistor 0603 (1608 Metric) Automotive AEC-Q200 Thick Film; Part Number: RMCF0603FT1K00; Tolerance: 1%; Distributor: Digikey; Distributor Part Number: RMCF0603FT1K00CT-ND; Case Code: 0603
footprint RESC0603 (Chip Resistor, 2-Leads, Body 1.60x0.80mm, IPC Medium Density)
pins: 1, 2

## RMCF0603FT1K2
designator R?  Resistance: 1K2  (hidden comment: RMCF0603FT1K2)
1.2 kOhms ±1% 0.1W, 1/10W Chip Resistor 0603 (1608 Metric) Automotive AEC-Q200 Thick Film; Part Number: RMCF0603FT1K2; Tolerance: 1%; Distributor: Digikey; Distributor Part Number: RMCF0603FT1K20CT-ND; Case Code: 0603
footprint RESC0603 (Chip Resistor, 2-Leads, Body 1.60x0.80mm, IPC Medium Density)
pins: 1, 2

## RMCF0603FT1K20
designator R?  Resistance: 1K2  (hidden comment: RMCF0603FT1K20)
1.2 kOhms ±1% 0.1W, 1/10W Chip Resistor 0603 (1608 Metric) Automotive AEC-Q200 Thick Film; Part Number: RMCF0603FT1K20; Tolerance: 1%; Distributor: Digikey; Distributor Part Number: RMCF0603FT1K20CT-ND; Case Code: 0603
footprint RESC0603 (Chip Resistor, 2-Leads, Body 1.60x0.80mm, IPC Medium Density)
pins: 1, 2

## RMCF0603FT1K82
designator R?  Resistance: 1K82  (hidden comment: RMCF0603FT1K82)
1.82 kOhms ±1% 0.1W, 1/10W Chip Resistor 0603 (1608 Metric) Automotive AEC-Q200 Thick Film; Part Number: RMCF0603FT1K82; Tolerance: 1%; Distributor: Digikey; Distributor Part Number: RMCF0603FT1K82CT-ND; Case Code: 0603
footprint RESC0603 (Chip Resistor, 2-Leads, Body 1.60x0.80mm, IPC Medium Density)
pins: 1, 2

## RMCF0603FT1M00
designator R?  Resistance: 1M  (hidden comment: RMCF0603FT1M00)
1 MOhms ±1% 0.1W, 1/10W Chip Resistor 0603 (1608 Metric) Automotive AEC-Q200 Thick Film; Part Number: RMCF0603FT1M00; Tolerance: 1%; Distributor: Digikey; Distributor Part Number: RMCF0603FT1M00CT-ND; Case Code: 0603
footprint RESC0603 (Chip Resistor, 2-Leads, Body 1.60x0.80mm, IPC Medium Density)
pins: 1, 2

## RMCF0603FT1M10
designator R?  Resistance: 1M10  (hidden comment: RMCF0603FT1M10)
1.1 MOhms ±1% 0.1W, 1/10W Chip Resistor 0603 (1608 Metric) Automotive AEC-Q200 Thick Film; Part Number: RMCF0603FT1M10; Tolerance: 1%; Distributor: Digikey; Distributor Part Number: RMCF0603FT1M10CT-ND; Case Code: 0603
footprint RESC0603 (Chip Resistor, 2-Leads, Body 1.60x0.80mm, IPC Medium Density)
pins: 1, 2

## RMCF0603FT1R00
designator R?  Resistance: 1R  (hidden comment: RMCF0603FT1R00)
2 Ohms ±1% 0.1W, 1/10W Chip Resistor 0603 (1608 Metric) Automotive AEC-Q200 Thick Film±1% 0.1W, 1/10W Chip Resistor 0603 (1608 Metric) Automotive AEC-Q200 Thick Film; Part Number: RMCF0603FT1R00; Tolerance: 1%; Distributor: Digikey; Distributor Part Number: RMCF0603FT1R00CT-ND; Case Code: 0603
footprint RESC0603 (Chip Resistor, 2-Leads, Body 1.60x0.80mm, IPC Medium Density)
pins: 1, 2

## RMCF0603FT2K20
designator R?  Resistance: 2K2  (hidden comment: RMCF0603FT2K20)
2.2 kOhms ±1% 0.1W, 1/10W Chip Resistor 0603 (1608 Metric) Automotive AEC-Q200 Thick Film; Part Number: RMCF0603FT2K20; Tolerance: 1%; Distributor: Digikey; Distributor Part Number: RMCF0603FT2K20CT-ND; Case Code: 0603
footprint RESC0603 (Chip Resistor, 2-Leads, Body 1.60x0.80mm, IPC Medium Density)
pins: 1, 2

## RMCF0603FT2K26
designator R?  Resistance: 2K26  (hidden comment: RMCF0603FT2K26)
2.26 kOhms ±1% 0.1W, 1/10W Chip Resistor 0603 (1608 Metric) Automotive AEC-Q200 Thick Film; Part Number: RMCF0603FT2K26; Tolerance: 1%; Distributor: Digikey; Distributor Part Number: RMCF0603FT2K26CT-ND; Case Code: 0603
footprint RESC0603 (Chip Resistor, 2-Leads, Body 1.60x0.80mm, IPC Medium Density)
pins: 1, 2

## RMCF0603FT2R00
designator R?  Resistance: 2R  (hidden comment: RMCF0603FT2R00)
2 Ohms ±1% 0.1W, 1/10W Chip Resistor 0603 (1608 Metric) Automotive AEC-Q200 Thick Film±1% 0.1W, 1/10W Chip Resistor 0603 (1608 Metric) Automotive AEC-Q200 Thick Film; Part Number: RMCF0603FT2R00; Tolerance: 1%; Distributor: Digikey; Distributor Part Number: RMCF0603FT2R00CT-ND; Case Code: 0603
footprint RESC0603 (Chip Resistor, 2-Leads, Body 1.60x0.80mm, IPC Medium Density)
pins: 1, 2

## RMCF0603FT3K09
designator R?  Resistance: 3K09  (hidden comment: RMCF0603FT3K09)
3.09 kOhms ±1% 0.1W, 1/10W Chip Resistor 0603 (1608 Metric) Automotive AEC-Q200 Thick Film; Part Number: RMCF0603FT3K09; Tolerance: 1%; Distributor: Digikey; Distributor Part Number: RMCF0603FT3K09CT-ND; Case Code: 0603
footprint RESC0603 (Chip Resistor, 2-Leads, Body 1.60x0.80mm, IPC Medium Density)
pins: 1, 2

## RMCF0603FT3K30
designator R?  Resistance: 3K3  (hidden comment: RMCF0603FT3K30)
3.3 kOhms ±1% 0.1W, 1/10W Chip Resistor 0603 (1608 Metric) Automotive AEC-Q200 Thick Film; Part Number: RMCF0603FT3K30; Tolerance: 1%; Distributor: Digikey; Distributor Part Number: RMCF0603FT3K30CT-ND; Case Code: 0603
footprint RESC0603 (Chip Resistor, 2-Leads, Body 1.60x0.80mm, IPC Medium Density)
pins: 1, 2

## RMCF0603FT3K48
designator R?  Resistance: 3.48K  (hidden comment: RMCF0603FT3K48)
3.48 kOhms ±1% 0.1W, 1/10W Chip Resistor 0603 (1608 Metric) Automotive AEC-Q200 Thick Film; Part Number: RMCF0603FT3K48; Tolerance: 1%; Distributor: Digikey; Distributor Part Number: RMCF0603FT3K48CT-ND; Case Code: 0603
footprint RESC0603 (Chip Resistor, 2-Leads, Body 1.60x0.80mm, IPC Medium Density)
pins: 1, 2

## RMCF0603FT3K74
designator R?  Resistance: 3.74K  (hidden comment: RMCF0603FT3K74)
3.74 kOhms ±1% 0.1W, 1/10W Chip Resistor 0603 (1608 Metric) Automotive AEC-Q200 Thick Film; Part Number: RMCF0603FT3K74; Tolerance: 1%; Distributor: Digikey; Distributor Part Number: RMCF0603FT3K74CT-ND; Case Code: 0603
footprint RESC0603 (Chip Resistor, 2-Leads, Body 1.60x0.80mm, IPC Medium Density)
pins: 1, 2

## RMCF0603FT3K83
designator R?  Resistance: 3K83  (hidden comment: RMCF0603FT3K83)
3.83 kOhms ±1% 0.1W, 1/10W Chip Resistor 0603 (1608 Metric) Automotive AEC-Q200 Thick Film; Part Number: RMCF0603FT3K83; Tolerance: 1%; Distributor: Digikey; Distributor Part Number: RMCF0603FT3K83CT-ND; Case Code: 0603
footprint RESC0603 (Chip Resistor, 2-Leads, Body 1.60x0.80mm, IPC Medium Density)
pins: 1, 2

## RMCF0603FT4K7
designator R?  Resistance: 4K7  (hidden comment: RMCF0603FT4K7)
4.7 kOhms ±1% 0.1W, 1/10W Chip Resistor 0603 (1608 Metric) Automotive AEC-Q200 Thick Film; Part Number: RMCF0603FT4K7; Tolerance: 1%; Distributor: Digikey; Distributor Part Number: RMCF0603FT4K70CT-ND; Case Code: 0603
footprint RESC0603 (Chip Resistor, 2-Leads, Body 1.60x0.80mm, IPC Medium Density)
pins: 1, 2

## RMCF0603FT4R02
designator R?  Resistance: 4R02  (hidden comment: RMCF0603FT4R02)
4.02Ohms ±1% 0.1W, 1/10W Chip Resistor 0603 (1608 Metric) Automotive AEC-Q200 Thick Film; Manufacturer: Stackpole; Part Number: RMCF0603FT4R02; Tolerance: 1%; Distributor: Digikey; Distributor Part Number: RMCF0603FT4R02CT-ND; Case Code: 0603
footprint RESC0603 (Chip Resistor, 2-Leads, Body 1.60x0.80mm, IPC Medium Density)
pins: 1, 2

## RMCF0603FT5K10
designator R?  Resistance: 5K1  (hidden comment: RMCF0603FT5K10)
5.1 kOhms ±1% 0.1W, 1/10W Chip Resistor 0603 (1608 Metric) Automotive AEC-Q200 Thick Film; Part Number: RMCF0603FT5K10; Tolerance: 1%; Distributor: Digikey; Distributor Part Number: RMCF0603FT5K10CT-ND; Case Code: 0603
footprint RESC0603 (Chip Resistor, 2-Leads, Body 1.60x0.80mm, IPC Medium Density)
pins: 1, 2

## RMCF0603FT5K60
designator R?  Resistance: 5K60  (hidden comment: RMCF0603FT5K60)
5.6 kOhms ±1% 0.1W, 1/10W Chip Resistor 0603 (1608 Metric) Automotive AEC-Q200 Thick Film; Part Number: RMCF0603FT5K60; Tolerance: 1%; Distributor: Digikey; Distributor Part Number: RMCF0603FT5K60CT-ND; Case Code: 0603
footprint RESC0603 (Chip Resistor, 2-Leads, Body 1.60x0.80mm, IPC Medium Density)
pins: 1, 2

## RMCF0603FT6K19
designator R?  Resistance: 6K19  (hidden comment: RMCF0603FT6K19)
6.19 kOhms ±1% 0.1W, 1/10W Chip Resistor 0603 (1608 Metric) Automotive AEC-Q200 Thick Film; Part Number: RMCF0603FT6K19; Tolerance: 1%; Distributor: Digikey; Distributor Part Number: RMCF0603FT6K19CT-ND; Case Code: 0603
footprint RESC0603 (Chip Resistor, 2-Leads, Body 1.60x0.80mm, IPC Medium Density)
pins: 1, 2

## RMCF0603FT6K81
designator R?  Resistance: 6K81  (hidden comment: RMCF0603FT6K81)
6.81 kOhms ±1% 0.1W, 1/10W Chip Resistor 0603 (1608 Metric) Automotive AEC-Q200 Thick Film; Part Number: RMCF0603FT6K81; Tolerance: 1%; Distributor: Digikey; Distributor Part Number: RMCF0603FT6K81CT-ND; Case Code: 0603
footprint RESC0603 (Chip Resistor, 2-Leads, Body 1.60x0.80mm, IPC Medium Density)
pins: 1, 2

## RMCF0603FT8K20
designator R?  Resistance: 8K2  (hidden comment: RMCF0603FT8K20)
8.2 kOhms ±1% 0.1W, 1/10W Chip Resistor 0603 (1608 Metric) Automotive AEC-Q200 Thick Film; Part Number: RMCF0603FT8K20; Tolerance: 1%; Distributor: Digikey; Distributor Part Number: RMCF0603FT8K20CT-ND; Case Code: 0603
footprint RESC0603 (Chip Resistor, 2-Leads, Body 1.60x0.80mm, IPC Medium Density)
pins: 1, 2

## RMCF0603FT10K0
designator R?  Resistance: 10K  (hidden comment: RMCF0603FT10K0)
10 kOhms ±1% 0.1W, 1/10W Chip Resistor 0603 (1608 Metric) Automotive AEC-Q200 Thick Film; Part Number: RMCF0603FT10K0; Tolerance: 1%; Distributor: Digikey; Distributor Part Number: RMCF0603FT10K0CT-ND; Case Code: 0603
footprint RESC0603 (Chip Resistor, 2-Leads, Body 1.60x0.80mm, IPC Medium Density)
pins: 1, 2

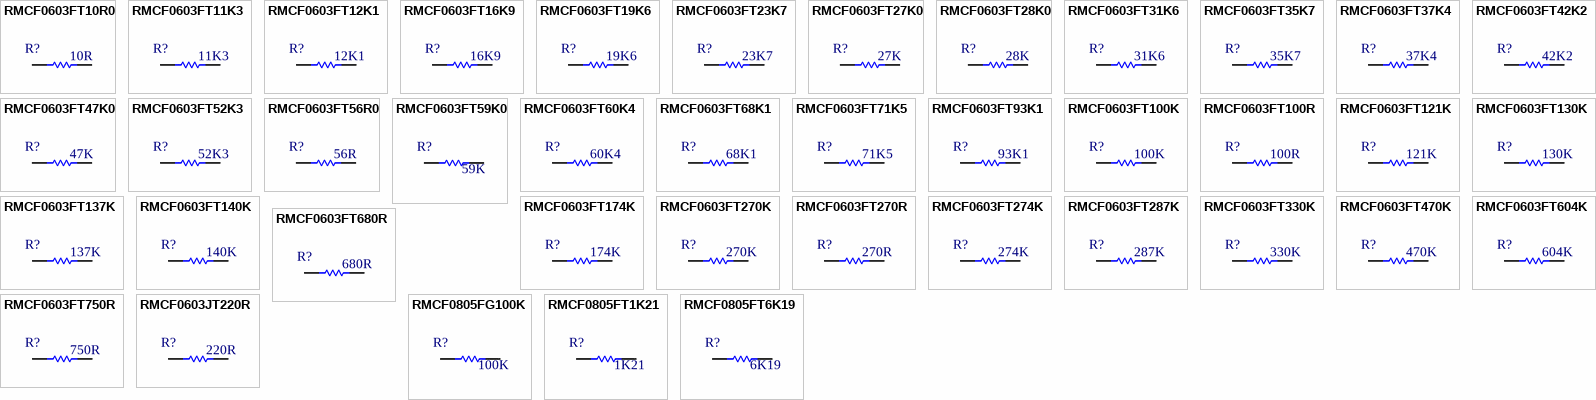
[diagram p8: symbols RMCF0603FT10R0 to RMCF0805FT6K19]

## RMCF0603FT10R0
designator R?  Resistance: 10R  (hidden comment: RMCF0603FT10R0)
10 Ohms ±1% 0.1W, 1/10W Chip Resistor 0603 (1608 Metric) Automotive AEC-Q200 Thick Film; Part Number: RMCF0603FT10R0; Tolerance: 1%; Distributor: Digikey; Distributor Part Number: RMCF0603FT10R0CT-ND; Case Code: 0603
footprint RESC0603 (Chip Resistor, 2-Leads, Body 1.60x0.80mm, IPC Medium Density)
pins: 1, 2

## RMCF0603FT11K3
designator R?  Resistance: 11K3  (hidden comment: RMCF0603FT11K3)
11.3 kOhms ±1% 0.1W, 1/10W Chip Resistor 0603 (1608 Metric) Automotive AEC-Q200 Thick Film; Part Number: RMCF0603FT11K3; Distributor: Digikey; Distributor Part Number: RMCF0603FT11K3CT-ND; Case Code: 0603; Tolerance: 1%
footprint RESC0603 (Chip Resistor, 2-Leads, Body 1.60x0.80mm, IPC Medium Density)
pins: 1, 2

## RMCF0603FT12K1
designator R?  Resistance: 12K1  (hidden comment: RMCF0603FT12K1)
12.1 kOhms ±1% 0.1W, 1/10W Chip Resistor 0603 (1608 Metric) Automotive AEC-Q200 Thick Film; Part Number: RMCF0603FT12K1; Tolerance: 1%; Distributor: Digikey; Distributor Part Number: RMCF0603FT12K1CT-ND; Case Code: 0603
footprint RESC0603 (Chip Resistor, 2-Leads, Body 1.60x0.80mm, IPC Medium Density)
pins: 1, 2

## RMCF0603FT16K9
designator R?  Resistance: 16K9  (hidden comment: RMCF0603FT16K9)
16.9 kOhms ±1% 0.1W, 1/10W Chip Resistor 0603 (1608 Metric) Automotive AEC-Q200 Thick Film; Part Number: RMCF0603FT16K9; Tolerance: 1%; Distributor: Digikey; Distributor Part Number: RMCF0603FT16K9CT-ND; Case Code: 0603
footprint RESC0603 (Chip Resistor, 2-Leads, Body 1.60x0.80mm, IPC Medium Density)
pins: 1, 2

## RMCF0603FT19K6
designator R?  Resistance: 19K6  (hidden comment: RMCF0603FT19K6)
19.6 kOhms ±1% 0.1W, 1/10W Chip Resistor 0603 (1608 Metric) Automotive AEC-Q200 Thick Film; Part Number: RMCF0603FT19K6; Tolerance: 1%; Distributor: Digikey; Distributor Part Number: RMCF0603FT19K6CT-ND; Case Code: 0603
footprint RESC0603 (Chip Resistor, 2-Leads, Body 1.60x0.80mm, IPC Medium Density)
pins: 1, 2

## RMCF0603FT23K7
designator R?  Resistance: 23K7  (hidden comment: RMCF0603FT23K7)
23.7 kOhms ±1% 0.1W, 1/10W Chip Resistor 0603 (1608 Metric) Automotive AEC-Q200 Thick Film; Part Number: RMCF0603FT23K7; Tolerance: 1%; Distributor: Digikey; Distributor Part Number: RMCF0603FT23K7CT-ND; Case Code: 0603
footprint RESC0603 (Chip Resistor, 2-Leads, Body 1.60x0.80mm, IPC Medium Density)
pins: 1, 2

## RMCF0603FT27K0
designator R?  Resistance: 27K  (hidden comment: RMCF0603FT27K0)
27 kOhms ±1% 0.1W, 1/10W Chip Resistor 0603 (1608 Metric) Automotive AEC-Q200 Thick Film; Part Number: RMCF0603FT27K0; Tolerance: 1%; Distributor: Digikey; Distributor Part Number: RMCF0603FT27K0CT-ND; Case Code: 0603
footprint RESC0603 (Chip Resistor, 2-Leads, Body 1.60x0.80mm, IPC Medium Density)
pins: 1, 2

## RMCF0603FT28K0
designator R?  Resistance: 28K  (hidden comment: RMCF0603FT28K0)
28 kOhms ±1% 0.1W, 1/10W Chip Resistor 0603 (1608 Metric) Automotive AEC-Q200 Thick Film; Part Number: RMCF0603FT28K0; Tolerance: 1%; Distributor: Digikey; Distributor Part Number: RMCF0603FT28K0CT-ND; Case Code: 0603
footprint RESC0603 (Chip Resistor, 2-Leads, Body 1.60x0.80mm, IPC Medium Density)
pins: 1, 2

## RMCF0603FT31K6
designator R?  Resistance: 31K6  (hidden comment: RMCF0603FT31K6)
31.6 kOhms ±1% 0.1W, 1/10W Chip Resistor 0603 (1608 Metric) Automotive AEC-Q200 Thick Film; Part Number: RMCF0603FT31K6; Tolerance: 1%; Distributor: Digikey; Distributor Part Number: RMCF0603FT31K6CT-ND; Case Code: 0603
footprint RESC0603 (Chip Resistor, 2-Leads, Body 1.60x0.80mm, IPC Medium Density)
pins: 1, 2

## RMCF0603FT35K7
designator R?  Resistance: 35K7  (hidden comment: RMCF0603FT35K7)
35.7 kOhms ±1% 0.1W, 1/10W Chip Resistor 0603 (1608 Metric) Automotive AEC-Q200 Thick Film; Part Number: RMCF0603FT35K7; Tolerance: 1%; Distributor: Digikey; Distributor Part Number: RMCF0603FT35K7CT-ND; Case Code: 0603
footprint RESC0603 (Chip Resistor, 2-Leads, Body 1.60x0.80mm, IPC Medium Density)
pins: 1, 2

## RMCF0603FT37K4
designator R?  Resistance: 37K4  (hidden comment: RMCF0603FT37K4)
37.4 kOhms ±1% 0.1W, 1/10W Chip Resistor 0603 (1608 Metric) Automotive AEC-Q200 Thick Film; Part Number: RMCF0603FT37K4; Tolerance: 1%; Distributor: Digikey; Distributor Part Number: RMCF0603FT37K4CT-ND; Case Code: 0603
footprint RESC0603 (Chip Resistor, 2-Leads, Body 1.60x0.80mm, IPC Medium Density)
pins: 1, 2

## RMCF0603FT42K2
designator R?  Resistance: 42K2  (hidden comment: RMCF0603FT42K2)
42.2 kOhms ±1% 0.1W, 1/10W Chip Resistor 0603 (1608 Metric) Automotive AEC-Q200 Thick Film; Part Number: RMCF0603FT42K2; Tolerance: 1%; Distributor: Digikey; Distributor Part Number: RMCF0603FT42K2CT-ND; Case Code: 0603
footprint RESC0603 (Chip Resistor, 2-Leads, Body 1.60x0.80mm, IPC Medium Density)
pins: 1, 2

## RMCF0603FT47K0
designator R?  Resistance: 47K  (hidden comment: RMCF0603FT47K0)
47 kOhms ±1% 0.1W, 1/10W Chip Resistor 0603 (1608 Metric) Automotive AEC-Q200 Thick Film; Part Number: RMCF0603FT47K0; Tolerance: 1%; Distributor: Digikey; Distributor Part Number: RMCF0603FT47K0CT-ND; Case Code: 0603
footprint RESC0603 (Chip Resistor, 2-Leads, Body 1.60x0.80mm, IPC Medium Density)
pins: 1, 2

## RMCF0603FT52K3
designator R?  Resistance: 52K3  (hidden comment: RMCF0603FT52K3)
52.3 kOhms ±1% 0.1W, 1/10W Chip Resistor 0603 (1608 Metric) Automotive AEC-Q200 Thick Film; Part Number: RMCF0603FT52K3; Tolerance: 1%; Distributor: Digikey; Distributor Part Number: RMCF0603FT174KCT-ND; Case Code: 0603
footprint RESC0603 (Chip Resistor, 2-Leads, Body 1.60x0.80mm, IPC Medium Density)
pins: 1, 2

## RMCF0603FT56R0
designator R?  Resistance: 56R  (hidden comment: RMCF0603FT56R0)
56 Ohms ±1% 0.1W, 1/10W Chip Resistor 0603 (1608 Metric) Automotive AEC-Q200 Thick Film; Part Number: RMCF0603FT56R0; Tolerance: 1%; Distributor: Digikey; Distributor Part Number: RMCF0603FT56R0CT-ND; Case Code: 0603
footprint RESC0603 (Chip Resistor, 2-Leads, Body 1.60x0.80mm, IPC Medium Density)
pins: 1, 2

## RMCF0603FT59K0
designator R?  Resistance: 59K  (hidden comment: RMCF0603FT59K0)
59 kOhms ±1% 0.1W, 1/10W Chip Resistor 0603 (1608 Metric) Automotive AEC-Q200 Thick Film; Part Number: RMCF0603FT59K0; Tolerance: 1%; Distributor Part Number: RMCF0603FT59K0CT-ND; Distributor: Digikey; Case Code: 0603
footprint RESC0603 (Chip Resistor, 2-Leads, Body 1.60x0.80mm, IPC Medium Density)
pins: 1, 2

## RMCF0603FT60K4
designator R?  Resistance: 60K4  (hidden comment: RMCF0603FT60K4)
60.4 kOhms ±1% 0.1W, 1/10W Chip Resistor 0603 (1608 Metric) Automotive AEC-Q200 Thick Film; Part Number: RMCF0603FT60K4; Tolerance: 1%; Distributor: Digikey; Distributor Part Number: RMCF0603FT60K4CT-ND; Case Code: 0603
footprint RESC0603 (Chip Resistor, 2-Leads, Body 1.60x0.80mm, IPC Medium Density)
pins: 1, 2

## RMCF0603FT68K1
designator R?  Resistance: 68K1  (hidden comment: RMCF0603FT68K1)
68.1 kOhms ±1% 0.1W, 1/10W Chip Resistor 0603 (1608 Metric) Automotive AEC-Q200 Thick Film; Part Number: RMCF0603FT68K1; Tolerance: 1%; Distributor: Digikey; Distributor Part Number: RMCF0603FT68K1CT-ND; Case Code: 0603
footprint RESC0603 (Chip Resistor, 2-Leads, Body 1.60x0.80mm, IPC Medium Density)
pins: 1, 2

## RMCF0603FT71K5
designator R?  Resistance: 71K5  (hidden comment: RMCF0603FT71K5)
71.5 kOhms ±1% 0.1W, 1/10W Chip Resistor 0603 (1608 Metric) Automotive AEC-Q200 Thick Film; Part Number: RMCF0603FT71K5; Tolerance: 1%; Distributor: Digikey; Distributor Part Number: RMCF0603FT71K5CT-ND; Case Code: 0603
footprint RESC0603 (Chip Resistor, 2-Leads, Body 1.60x0.80mm, IPC Medium Density)
pins: 1, 2

## RMCF0603FT93K1
designator R?  Resistance: 93K1  (hidden comment: RMCF0603FT93K1)
93.1 kOhms ±1% 0.1W, 1/10W Chip Resistor 0603 (1608 Metric) Automotive AEC-Q200 Thick Film; Part Number: RMCF0603FT93K1; Tolerance: 1%; Distributor: Digikey; Distributor Part Number: RMCF0603FT93K1CT-ND; Case Code: 0603
footprint RESC0603 (Chip Resistor, 2-Leads, Body 1.60x0.80mm, IPC Medium Density)
pins: 1, 2

## RMCF0603FT100K
designator R?  Resistance: 100K  (hidden comment: RMCF0603FT100K)
100 kOhms ±1% 0.1W, 1/10W Chip Resistor 0603 (1608 Metric) Automotive AEC-Q200 Thick Film; Part Number: RMCF0603FT100K; Tolerance: 1%; Distributor: Digikey; Distributor Part Number: RMCF0603FT100KCT-ND; Case Code: 0603
footprint RESC0603 (Chip Resistor, 2-Leads, Body 1.60x0.80mm, IPC Medium Density)
pins: 1, 2

## RMCF0603FT100R
designator R?  Resistance: 100R  (hidden comment: RMCF0603FT100R)
100 Ohms ±1% 0.1W, 1/10W Chip Resistor 0603 (1608 Metric) Automotive AEC-Q200 Thick Film; Part Number: RMCF0603FT100R; Tolerance: 1%; Distributor: Digikey; Distributor Part Number: RMCF0603FT100RCT-ND; Case Code: 0603
footprint RESC0603 (Chip Resistor, 2-Leads, Body 1.60x0.80mm, IPC Medium Density)
pins: 1, 2

## RMCF0603FT121K
designator R?  Resistance: 121K  (hidden comment: RMCF0603FT121K)
121 kOhms ±1% 0.1W, 1/10W Chip Resistor 0603 (1608 Metric) Automotive AEC-Q200 Thick Film; Part Number: RMCF0603FT121K; Tolerance: 1%; Distributor: Digikey; Distributor Part Number: RMCF0603FT121KCT-ND; Case Code: 0603
footprint RESC0603 (Chip Resistor, 2-Leads, Body 1.60x0.80mm, IPC Medium Density)
pins: 1, 2

## RMCF0603FT130K
designator R?  Resistance: 130K  (hidden comment: RMCF0603FT130K)
130 kOhms ±1% 0.1W, 1/10W Chip Resistor 0603 (1608 Metric) Automotive AEC-Q200 Thick Film; Part Number: RMCF0603FT130K; Tolerance: 1%; Distributor: Digikey; Distributor Part Number: RMCF0603FT130KCT-ND; Case Code: 0603
footprint RESC0603 (Chip Resistor, 2-Leads, Body 1.60x0.80mm, IPC Medium Density)
pins: 1, 2

## RMCF0603FT137K
designator R?  Resistance: 137K  (hidden comment: RMCF0603FT137K)
137 kOhms ±1% 0.1W, 1/10W Chip Resistor 0603 (1608 Metric) Automotive AEC-Q200 Thick Film; Part Number: RMCF0603FT137K; Tolerance: 1%; Distributor: Digikey; Distributor Part Number: RMCF0603FT137KCT-ND; Case Code: 0603
footprint RESC0603 (Chip Resistor, 2-Leads, Body 1.60x0.80mm, IPC Medium Density)
pins: 1, 2

## RMCF0603FT140K
designator R?  Resistance: 140K  (hidden comment: RMCF0603FT140K)
140 kOhms ±1% 0.1W, 1/10W Chip Resistor 0603 (1608 Metric) Automotive AEC-Q200 Thick Film; Part Number: RMCF0603FT100K; Tolerance: 1%; Distributor: Digikey; Distributor Part Number: RMCF0603FT140KCT-ND; Case Code: 0603
footprint RESC0603 (Chip Resistor, 2-Leads, Body 1.60x0.80mm, IPC Medium Density)
pins: 1, 2

## RMCF0603FT174K
designator R?  Resistance: 174K  (hidden comment: RMCF0603FT174K)
174 kOhms ±1% 0.1W, 1/10W Chip Resistor 0603 (1608 Metric) Automotive AEC-Q200 Thick Film; Manufacturer Part Number: RMCF0603FT174K; Tolerance: 1%; Distributor: Digikey; Distributor Part Number: RMCF0603FT174KCT-ND; Case Code: 0603
footprint RESC0603 (Chip Resistor, 2-Leads, Body 1.60x0.80mm, IPC Medium Density)
pins: 1, 2

## RMCF0603FT270K
designator R?  Resistance: 270K  (hidden comment: RMCF0603FT270K)
270 kOhms ±1% 0.1W, 1/10W Chip Resistor 0603 (1608 Metric) Automotive AEC-Q200 Thick Film; Part Number: RMCF0603FT270K; Tolerance: 1%; Distributor: Digikey; Distributor Part Number: RMCF0603FT270KCT-ND; Case Code: 0603
footprint RESC0603 (Chip Resistor, 2-Leads, Body 1.60x0.80mm, IPC Medium Density)
pins: 1, 2

## RMCF0603FT270R
designator R?  Resistance: 270R  (hidden comment: RMCF0603FT270R)
270 Ohms ±1% 0.1W, 1/10W Chip Resistor 0603 (1608 Metric) Automotive AEC-Q200 Thick Film; Part Number: RMCF0603FT270R; Tolerance: 1%; Distributor: Digikey; Distributor Part Number: RMCF0603FT270RCT-ND; Case Code: 0603
footprint RESC0603 (Chip Resistor, 2-Leads, Body 1.60x0.80mm, IPC Medium Density)
pins: 1, 2

## RMCF0603FT274K
designator R?  Resistance: 274K  (hidden comment: RMCF0603FT274K)
274 kOhms ±1% 0.1W, 1/10W Chip Resistor 0603 (1608 Metric) Automotive AEC-Q200 Thick Film; Part Number: RMCF0603FT274K; Tolerance: 1%; Distributor: Digikey; Distributor Part Number: RMCF0603FT274KCT-ND; Case Code: 0603
footprint RESC0603 (Chip Resistor, 2-Leads, Body 1.60x0.80mm, IPC Medium Density)
pins: 1, 2

## RMCF0603FT287K
designator R?  Resistance: 287K  (hidden comment: RMCF0603FT287K)
287 kOhms ±1% 0.1W, 1/10W Chip Resistor 0603 (1608 Metric) Automotive AEC-Q200 Thick Film; Part Number: RMCF0603FT287K; Tolerance: 1%; Distributor: Digikey; Distributor Part Number: RMCF0603FT287KCT-ND; Case Code: 0603
footprint RESC0603 (Chip Resistor, 2-Leads, Body 1.60x0.80mm, IPC Medium Density)
pins: 1, 2

## RMCF0603FT330K
designator R?  Resistance: 330K  (hidden comment: RMCF0603FT330K)
330 kOhms ±1% 0.1W, 1/10W Chip Resistor 0603 (1608 Metric) Automotive AEC-Q200 Thick Film; Part Number: RMCF0603FT330K; Tolerance: 1%; Distributor: Digikey; Distributor Part Number: RMCF0603FT330KCT-ND; Case Code: 0603
footprint RESC0603 (Chip Resistor, 2-Leads, Body 1.60x0.80mm, IPC Medium Density)
pins: 1, 2